# EAGLE library part SPF-5122Z (library NewSDR)
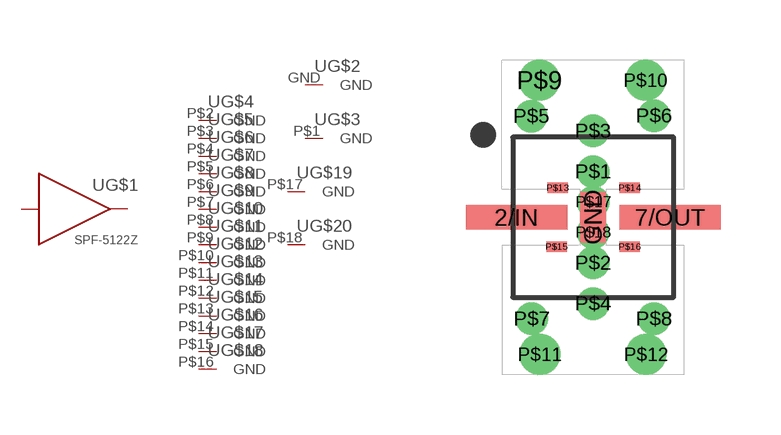
[diagram p102: symbol with the pads of SPF-5122Z; footprint SPF-5122Z]

Designator prefix U; gates G$1=SPF-5122Z G$2=PIN_GND G$3=PIN_GND G$4=PIN_GND G$5=PIN_GND G$6=PIN_GND G$7=PIN_GND G$8=PIN_GND G$9=PIN_GND G$10=PIN_GND G$11=PIN_GND G$12=PIN_GND G$13=PIN_GND G$14=PIN_GND G$15=PIN_GND G$16=PIN_GND G$17=PIN_GND G$18=PIN_GND G$19=PIN_GND G$20=PIN_GND

## SPF-5122Z  [SPF-5122Z]
2/IN  G$1:2/IN  in
7/OUT  G$1:7/OUT  out
GND  G$2:GND  pwr
P$1  G$3:GND  pwr
P$2  G$4:GND  pwr
P$3  G$5:GND  pwr
P$4  G$6:GND  pwr
P$5  G$7:GND  pwr
P$6  G$8:GND  pwr
P$7  G$9:GND  pwr
P$8  G$10:GND  pwr
P$9  G$11:GND  pwr
P$10  G$12:GND  pwr
P$11  G$13:GND  pwr
P$12  G$14:GND  pwr
P$13  G$15:GND  pwr
P$14  G$16:GND  pwr
P$15  G$17:GND  pwr
P$16  G$18:GND  pwr
P$17  G$19:GND  pwr
P$18  G$20:GND  pwr

## Footprint SPF-5122Z (pad centres in mm)
smd 2.54 x 0.61: 2/IN -1.919,0; 7/OUT 1.924,0
smd 0.635 x 1.27: GND 0,0
drill 0.305 pad 0.406: P$1 0,1.143; P$2 0,-1.143; P$3 0,2.159; P$4 0,-2.159; P$5 -1.546,2.53; P$6 1.524,2.541; P$7 -1.535,-2.541; P$8 1.524,-2.541; P$17 0,0.381; P$18 0,-0.381
drill 0.508 pad 0.61: P$9 -1.344,3.43; P$10 1.313,3.43; P$11 -1.334,-3.43; P$12 1.323,-3.43
smd 0.508 x 0.254: P$13 -0.889,0.737; P$14 0.914,0.737; P$15 -0.914,-0.737; P$16 0.914,-0.737